# Altium footprint library DFN-8-2x2.PcbLib: 1 footprints
Each footprint in its own frame and in the unit in brackets; x right, y up, seen from the top. Pads: shape width x height; smd on the part's side, far side on the other; paste and mask are expansions set on the pad; w line width, h text height; cw(c..) or ccw(c..) is an arc to the next point about the centre after c.
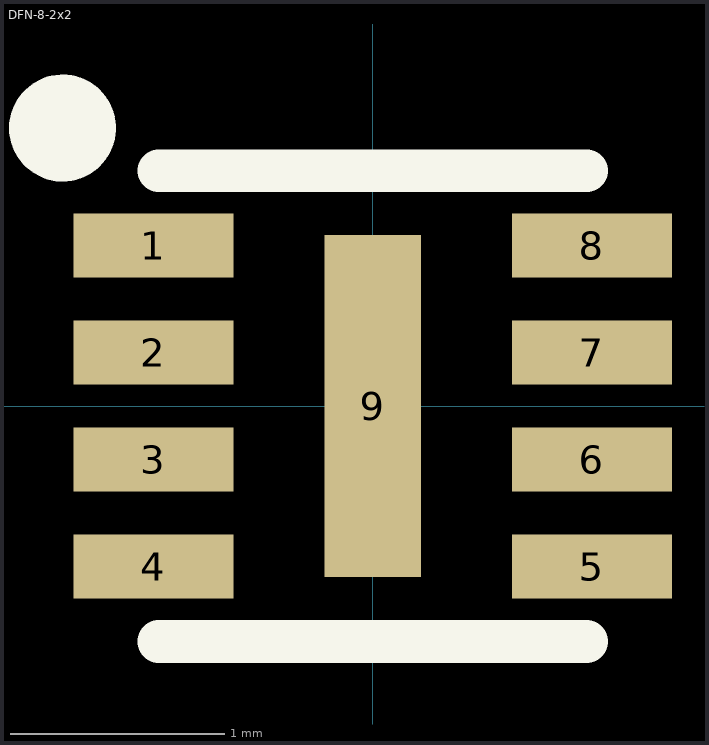
[diagram p0: the footprint, top view; thin cyan lines are the x and y axes]

## DFN-8-2x2 [mm]
pads (9):
  rect 0.75x0.3 smd mask+0.05: 1(-1.025,0.75) 2(-1.025,0.25) 3(-1.025,-0.25) 4(-1.025,-0.75) 5(1.025,-0.75) 6(1.025,-0.25) 7(1.025,0.25) 8(1.025,0.75)
  rect 0.45x1.6 smd mask+0.05: 9(0,0)
Top Overlay:
  circle w0.25: c-1.45,1.3 r0.125
  lines w0.2: -1,-1.1 1,-1.1 ; -1,1.1 1,1.1
3D body: height 0.55, standoff 0, extent -1,-1 1,1